# Altium schematic symbol library UCL1V331MNL1GS.SchLib: 2 symbols
Pins are listed as number, name and electrical type; pins without a type are passive.

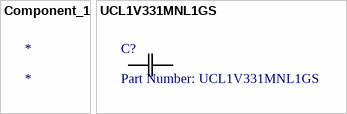
[diagram p0: symbols Component_1 to UCL1V331MNL1GS]

## Component_1
designator *

## UCL1V331MNL1GS
designator C?, comment Part Number: UCL1V331MNL1GS
No Description Available; Vendor: Nichicon; Built_By: EMA_UL_Team; Type: DEV; Manufacturer_Part_Number: UCL1V331MNL1GS; Copyright: Copyright (C) 2018 Accelerated Designs. All rights reserved; RefDes: RefDes; Value: Value
footprint U2-R
pins: 1, 2